# Altium schematic symbol library Schlib1.SchLib: 7 symbols
Pins are listed as number, name and electrical type; pins without a type are passive.

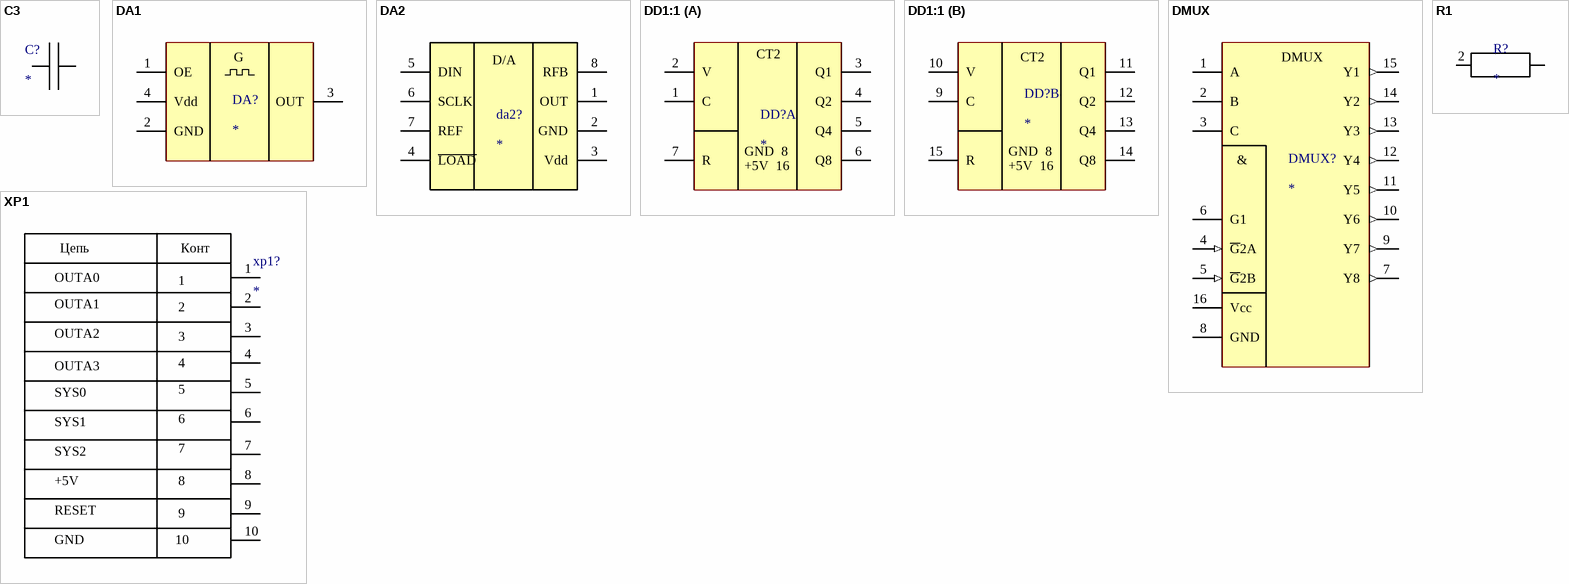
[diagram p0: symbols C3 to XP1]

## C3
designator C?
footprint R_0805
pins: 1, 2

## DA1
designator DA?
footprint ATC9200
pins: 1 OE, 2 GND, 3 OUT, 4 Vdd
text: G

## DA2
designator da2?
footprint DIP-8
pins: 1 OUT, 2 GND, 3 Vdd, 4 ~{LOAD}, 5 DIN, 6 SCLK, 7 REF, 8 RFB
text: D/A

## DD1:1
designator DD?
footprint DIP-16 (DIP; 16 Leads; Row Spacing 7.62 mm; Pitch 2.54 mm)
part A pins: 1 C, 2 V, 3 Q1, 4 Q2, 5 Q4, 6 Q8, 7 R, 8 (power) hidden to GND
part B pins: 9 C, 10 V, 11 Q1, 12 Q2, 13 Q4, 14 Q8, 15 R, 16 (power) hidden to +5V
part A text: CT2; GND  8; +5V  16
part B text: CT2; GND  8; +5V  16

## DMUX
designator DMUX?
footprint DIP-16 (DIP; 16 Leads; Row Spacing 7.62 mm; Pitch 2.54 mm)
pins: 1 A, 2 B, 3 C, 4 ~{G}2A (in), 5 ~{G}2B (in), 6 G1, 7 Y8 (out), 8 GND, 9 Y7 (out), 10 Y6 (out), 11 Y5 (out), 12 Y4 (out), 13 Y3 (out), 14 Y2 (out), 15 Y1 (out), 16 Vcc
text: &

## R1
designator R?
footprint R_0805
pins: 1, 2

## XP1
designator xp1?
footprint xp1 (Connector; Header; 5x2 Position)
pins: 1 38, 2 39, 3 40, 4 41, 5 42, 6 43, 7 44, 8 45, 9 46, 10 47
text: Цепь; Конт; OUTA0; OUTA1; OUTA2; OUTA3; SYS0; SYS1; SYS2; +5V; RESET; GND